# Altium footprint library Dallas Semiconductor Footprints.PcbLib: 181 footprints (part 11 of 12)
Each footprint in its own frame and in the unit in brackets; x right, y up, seen from the top. Pads: shape width x height; smd on the part's side, far side on the other; paste and mask are expansions set on the pad; w line width, h text height; cw(c..) or ccw(c..) is an arc to the next point about the centre after c.
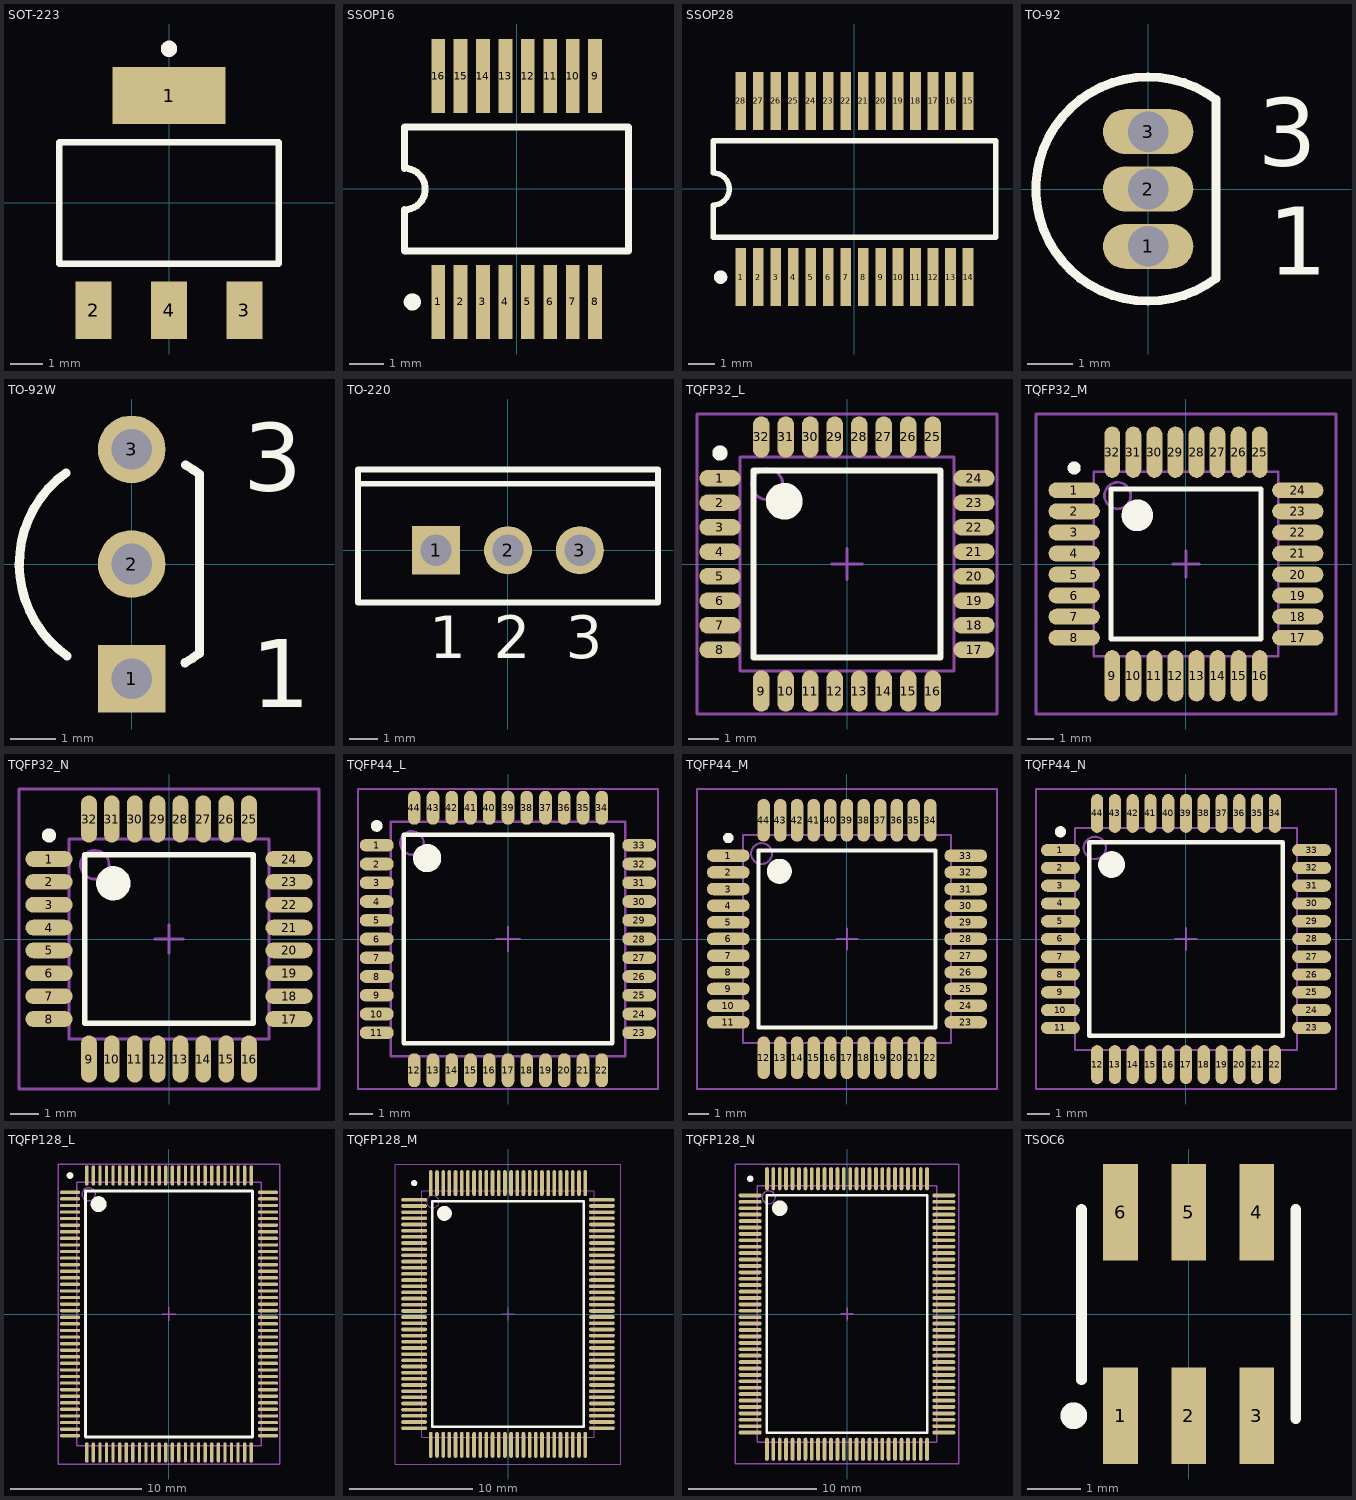
[diagram p10: the footprints below, top view; thin cyan lines are the x and y axes]

## SOT-223 [mm] "SOT-223/SC-73; 4 Leads; Body 6.7 x 7.3 mm, inc. leads (LxW max)"
height 1.7
pads (4):
  rect 3.45x1.75 smd: 1(0,3.275)
  rect 1.1x1.75 smd: 2(-2.3,-3.275) 3(2.3,-3.275) 4(0,-3.275)
Top Overlay:
  circle w0.25: c0,4.7 r0.125
  lines w0.2: -3.35,-1.85 -3.35,1.85 3.35,1.85 3.35,-1.85 -3.35,-1.85

## SSOP16 [mm] "SSOP; 16 Leads; Body Width 5.3 mm; Pitch 0.65 mm"
height 2
pads (16):
  rect 0.4x2.15 smd: 1(-2.275,-3.275) 2(-1.625,-3.275) 3(-0.975,-3.275) 4(-0.325,-3.275) 5(0.325,-3.275) 6(0.975,-3.275) 7(1.625,-3.275) 8(2.275,-3.275) 9(2.275,3.275) 10(1.625,3.275) 11(0.975,3.275) 12(0.325,3.275) 13(-0.325,3.275) 14(-0.975,3.275) 15(-1.625,3.275) 16(-2.275,3.275)
Top Overlay:
  circle w0.25: c-3.025,-3.275 r0.125
  lines w0.2: -3.25,-1.8 3.25,-1.8 3.25,1.8 -3.25,1.8 -3.25,0.6 cw(c-3.25,0) -3.25,-0.6 -3.25,-1.8

## SSOP28 [mm] "SSOP, Plastic; 28 Leads; Body Width 5.3 mm; Pitch 0.65 mm"
height 2
pads (28):
  rect 0.4x2.15 smd: 1(-4.225,-3.275) 2(-3.575,-3.275) 3(-2.925,-3.275) 4(-2.275,-3.275) 5(-1.625,-3.275) 6(-0.975,-3.275) 7(-0.325,-3.275) 8(0.325,-3.275) 9(0.975,-3.275) 10(1.625,-3.275) 11(2.275,-3.275) 12(2.925,-3.275) 13(3.575,-3.275) 14(4.225,-3.275) 15(4.225,3.275) 16(3.575,3.275) 17(2.925,3.275) 18(2.275,3.275) 19(1.625,3.275) 20(0.975,3.275) 21(0.325,3.275) 22(-0.325,3.275) 23(-0.975,3.275) 24(-1.625,3.275) 25(-2.275,3.275) 26(-2.925,3.275) 27(-3.575,3.275) 28(-4.225,3.275)
Top Overlay:
  circle w0.25: c-4.975,-3.275 r0.125
  lines w0.2: -5.25,-1.8 5.25,-1.8 5.25,1.8 -5.25,1.8 -5.25,0.6 cw(c-5.25,0) -5.25,-0.6 -5.25,-1.8

## TO-92 [mm] "TO, Flat Index; 3 In-Line, Axial Leads; Body Dia. 4.7mm; Leads 0.56 x 0.51 mm (max)"
height 4.96
pads (3):
  oval 2x1 hole 0.9: 1(0,-1.27) 2(0,0) 3(0,1.27)
Top Overlay:
  lines w0.2: 1.5,-1.98 cw(c0,0) 1.5,1.98 1.5,-1.98
  text "3" at 2.43,0.51 h1.5
  text "1" at 2.66,-1.9 h1.5

## TO-92W [mm] "TO, Flat Index; 3 In-Line, Axial Leads (Wide Pitch); Body Dia. 4.7mm; Leads 0.56 x 0.51 mm (max)"
height 7.96
pads (3):
  rect 1.5x1.5 hole 0.9: 1(0,-2.54)
  round 1.5 hole 0.9: 2(0,0) 3(0,2.54)
Top Overlay:
  lines w0.2: -1.457,2.019 ccw(c0,0) -1.429,-2.039 ; 1.177,-2.188 ccw(c0,0) 1.5,-1.98 1.5,1.98 ; 1.189,2.194 cw(c0,0) 1.507,1.989
  text "3" at 2.47,1.62 h1.5
  text "1" at 2.65,-3.17 h1.5

## TO-220 [mm] "TO, Thru-Hole, Vertical, Heatsink Mounted; 3 In-Line Leads; Pitch 2.54 mm"
height 21.4
pads (3):
  rect 1.7x1.7 hole 1.1: 1(-2.54,0)
  round 1.7 hole 1.1: 2(0,0) 3(2.54,0)
Top Overlay:
  lines w0.2: -5.3,2.35 5.3,2.35 ; -5.3,-1.85 5.3,-1.85 5.3,2.85 -5.3,2.85 -5.3,-1.85
  text "1" at -2.79,-3.825 h1.5
  text "2" at -0.5,-3.825 h1.5
  text "3" at 2.04,-3.825 h1.5

## TQFP32_L [mm] "32-Pin Thin Quad Flat Pack 0.8 mm Pitch, IPC High Density"
height 1.2
pads (32):
  oval 1.35x0.55 smd: 1(-4.15,2.8) 2(-4.15,2) 3(-4.15,1.2) 4(-4.15,0.4) 5(-4.15,-0.4) 6(-4.15,-1.2) 7(-4.15,-2) 8(-4.15,-2.8) 17(4.15,-2.8) 18(4.15,-2) 19(4.15,-1.2) 20(4.15,-0.4) 21(4.15,0.4) 22(4.15,1.2) 23(4.15,2) 24(4.15,2.8)
  oval 0.55x1.35 smd: 9(-2.8,-4.15) 10(-2,-4.15) 11(-1.2,-4.15) 12(-0.4,-4.15) 13(0.4,-4.15) 14(1.2,-4.15) 15(2,-4.15) 16(2.8,-4.15) 25(2.8,4.15) 26(2,4.15) 27(1.2,4.15) 28(0.4,4.15) 29(-0.4,4.15) 30(-1.2,4.15) 31(-2,4.15) 32(-2.8,4.15)
Top Overlay:
  circle w0.25: c-4.15,3.625 r0.125
  circle w0.6: c-2.05,2.05 r0.3
  lines w0.2: -3.05,-3.05 -3.05,3.05 3.05,3.05 3.05,-3.05 -3.05,-3.05
Mechanical 13:
  circle w0.1: c-2.6,2.6 r0.5
  lines w0.1: -3.5,-3.5 -3.5,3.5 3.5,3.5 3.5,-3.5 -3.5,-3.5
Mechanical 15:
  lines w0.1: -0.5,0 0.5,0 ; 0,-0.5 0,0.5 ; -4.9,-4.9 -4.9,4.9 4.9,4.9 4.9,-4.9 -4.9,-4.9
3D body: height 1.2, standoff 0, extent -3.5,-3.5 3.5,3.5

## TQFP32_M [mm] "32-Pin Thin Quad Flat Pack 0.8 mm Pitch, IPC Low Density"
height 1.2
pads (32):
  oval 1.95x0.6 smd: 1(-4.25,2.8) 2(-4.25,2) 3(-4.25,1.2) 4(-4.25,0.4) 5(-4.25,-0.4) 6(-4.25,-1.2) 7(-4.25,-2) 8(-4.25,-2.8) 17(4.25,-2.8) 18(4.25,-2) 19(4.25,-1.2) 20(4.25,-0.4) 21(4.25,0.4) 22(4.25,1.2) 23(4.25,2) 24(4.25,2.8)
  oval 0.6x1.95 smd: 9(-2.8,-4.25) 10(-2,-4.25) 11(-1.2,-4.25) 12(-0.4,-4.25) 13(0.4,-4.25) 14(1.2,-4.25) 15(2,-4.25) 16(2.8,-4.25) 25(2.8,4.25) 26(2,4.25) 27(1.2,4.25) 28(0.4,4.25) 29(-0.4,4.25) 30(-1.2,4.25) 31(-2,4.25) 32(-2.8,4.25)
Top Overlay:
  circle w0.25: c-4.25,3.65 r0.125
  circle w0.6: c-1.85,1.85 r0.3
  lines w0.2: -2.85,-2.85 -2.85,2.85 2.85,2.85 2.85,-2.85 -2.85,-2.85
Mechanical 13:
  circle w0.1: c-2.6,2.6 r0.5
  lines w0.1: -3.5,-3.5 -3.5,3.5 3.5,3.5 3.5,-3.5 -3.5,-3.5
Mechanical 15:
  lines w0.1: -0.5,0 0.5,0 ; 0,-0.5 0,0.5 ; -5.7,-5.7 -5.7,5.7 5.7,5.7 5.7,-5.7 -5.7,-5.7
3D body: height 1.2, standoff 0, extent -3.5,-3.5 3.5,3.5

## TQFP32_N [mm] "32-Pin Thin Quad Flat Pack 0.8 mm Pitch, IPC Medium Density"
height 1.2
pads (32):
  oval 1.65x0.55 smd: 1(-4.2,2.8) 2(-4.2,2) 3(-4.2,1.2) 4(-4.2,0.4) 5(-4.2,-0.4) 6(-4.2,-1.2) 7(-4.2,-2) 8(-4.2,-2.8) 17(4.2,-2.8) 18(4.2,-2) 19(4.2,-1.2) 20(4.2,-0.4) 21(4.2,0.4) 22(4.2,1.2) 23(4.2,2) 24(4.2,2.8)
  oval 0.55x1.65 smd: 9(-2.8,-4.2) 10(-2,-4.2) 11(-1.2,-4.2) 12(-0.4,-4.2) 13(0.4,-4.2) 14(1.2,-4.2) 15(2,-4.2) 16(2.8,-4.2) 25(2.8,4.2) 26(2,4.2) 27(1.2,4.2) 28(0.4,4.2) 29(-0.4,4.2) 30(-1.2,4.2) 31(-2,4.2) 32(-2.8,4.2)
Top Overlay:
  circle w0.6: c-1.95,1.95 r0.3
  circle w0.25: c-4.2,3.625 r0.125
  lines w0.2: -2.95,-2.95 2.95,-2.95 2.95,2.95 -2.95,2.95 -2.95,-2.95
Mechanical 13:
  circle w0.1: c-2.6,2.6 r0.5
  lines w0.1: -3.5,-3.5 3.5,-3.5 3.5,3.5 -3.5,3.5 -3.5,-3.5
Mechanical 15:
  lines w0.1: -0.5,0 0.5,0 ; 0,-0.5 0,0.5 ; -5.25,-5.25 5.25,-5.25 5.25,5.25 -5.25,5.25 -5.25,-5.25
3D body: height 1.2, standoff 0, extent -3.5,-3.5 3.5,3.5

## TQFP44_L [mm] "44-Pin Thin Quad Flat Pack 0.8 mm Pitch, IPC High Density"
height 1.2
pads (44):
  oval 1.45x0.55 smd: 1(-5.6,4) 2(-5.6,3.2) 3(-5.6,2.4) 4(-5.6,1.6) 5(-5.6,0.8) 6(-5.6,0) 7(-5.6,-0.8) 8(-5.6,-1.6) 9(-5.6,-2.4) 10(-5.6,-3.2) 11(-5.6,-4) 23(5.6,-4) 24(5.6,-3.2) 25(5.6,-2.4) 26(5.6,-1.6) 27(5.6,-0.8) 28(5.6,0) 29(5.6,0.8) 30(5.6,1.6) 31(5.6,2.4) 32(5.6,3.2) 33(5.6,4)
  oval 0.55x1.45 smd: 12(-4,-5.6) 13(-3.2,-5.6) 14(-2.4,-5.6) 15(-1.6,-5.6) 16(-0.8,-5.6) 17(0,-5.6) 18(0.8,-5.6) 19(1.6,-5.6) 20(2.4,-5.6) 21(3.2,-5.6) 22(4,-5.6) 34(4,5.6) 35(3.2,5.6) 36(2.4,5.6) 37(1.6,5.6) 38(0.8,5.6) 39(0,5.6) 40(-0.8,5.6) 41(-1.6,5.6) 42(-2.4,5.6) 43(-3.2,5.6) 44(-4,5.6)
Top Overlay:
  circle w0.6: c-3.45,3.45 r0.3
  circle w0.25: c-5.6,4.825 r0.125
  lines w0.2: -4.45,-4.45 4.45,-4.45 4.45,4.45 -4.45,4.45 -4.45,-4.45
Mechanical 13:
  circle w0.1: c-4.1,4.1 r0.5
  lines w0.1: -5,-5 5,-5 5,5 -5,5 -5,-5
Mechanical 15:
  lines w0.1: -0.5,0 0.5,0 ; 0,-0.5 0,0.5 ; -6.4,-6.4 6.4,-6.4 6.4,6.4 -6.4,6.4 -6.4,-6.4
3D body: height 1.2, standoff 0, extent -5,-5 5,5

## TQFP44_M [mm] "44-Pin Thin Quad Flat Pack 0.8 mm Pitch, IPC Low Density"
height 1.2
pads (44):
  oval 2.05x0.6 smd: 1(-5.7,4) 2(-5.7,3.2) 3(-5.7,2.4) 4(-5.7,1.6) 5(-5.7,0.8) 6(-5.7,0) 7(-5.7,-0.8) 8(-5.7,-1.6) 9(-5.7,-2.4) 10(-5.7,-3.2) 11(-5.7,-4) 23(5.7,-4) 24(5.7,-3.2) 25(5.7,-2.4) 26(5.7,-1.6) 27(5.7,-0.8) 28(5.7,0) 29(5.7,0.8) 30(5.7,1.6) 31(5.7,2.4) 32(5.7,3.2) 33(5.7,4)
  oval 0.6x2.05 smd: 12(-4,-5.7) 13(-3.2,-5.7) 14(-2.4,-5.7) 15(-1.6,-5.7) 16(-0.8,-5.7) 17(0,-5.7) 18(0.8,-5.7) 19(1.6,-5.7) 20(2.4,-5.7) 21(3.2,-5.7) 22(4,-5.7) 34(4,5.7) 35(3.2,5.7) 36(2.4,5.7) 37(1.6,5.7) 38(0.8,5.7) 39(0,5.7) 40(-0.8,5.7) 41(-1.6,5.7) 42(-2.4,5.7) 43(-3.2,5.7) 44(-4,5.7)
Top Overlay:
  circle w0.6: c-3.25,3.25 r0.3
  circle w0.25: c-5.7,4.85 r0.125
  lines w0.2: -4.25,-4.25 4.25,-4.25 4.25,4.25 -4.25,4.25 -4.25,-4.25
Mechanical 13:
  circle w0.1: c-4.1,4.1 r0.5
  lines w0.1: -5,-5 5,-5 5,5 -5,5 -5,-5
Mechanical 15:
  lines w0.1: -0.5,0 0.5,0 ; 0,-0.5 0,0.5 ; -7.2,-7.2 7.2,-7.2 7.2,7.2 -7.2,7.2 -7.2,-7.2
3D body: height 1.2, standoff 0, extent -5,-5 5,5

## TQFP44_N [mm] "44-Pin Thin Quad Flat Pack 0.8 mm Pitch, IPC Medium Density"
height 1.2
pads (44):
  oval 1.75x0.55 smd: 1(-5.65,4) 2(-5.65,3.2) 3(-5.65,2.4) 4(-5.65,1.6) 5(-5.65,0.8) 6(-5.65,0) 7(-5.65,-0.8) 8(-5.65,-1.6) 9(-5.65,-2.4) 10(-5.65,-3.2) 11(-5.65,-4) 23(5.65,-4) 24(5.65,-3.2) 25(5.65,-2.4) 26(5.65,-1.6) 27(5.65,-0.8) 28(5.65,0) 29(5.65,0.8) 30(5.65,1.6) 31(5.65,2.4) 32(5.65,3.2) 33(5.65,4)
  oval 0.55x1.75 smd: 12(-4,-5.65) 13(-3.2,-5.65) 14(-2.4,-5.65) 15(-1.6,-5.65) 16(-0.8,-5.65) 17(0,-5.65) 18(0.8,-5.65) 19(1.6,-5.65) 20(2.4,-5.65) 21(3.2,-5.65) 22(4,-5.65) 34(4,5.65) 35(3.2,5.65) 36(2.4,5.65) 37(1.6,5.65) 38(0.8,5.65) 39(0,5.65) 40(-0.8,5.65) 41(-1.6,5.65) 42(-2.4,5.65) 43(-3.2,5.65) 44(-4,5.65)
Top Overlay:
  circle w0.6: c-3.35,3.35 r0.3
  circle w0.25: c-5.65,4.825 r0.125
  lines w0.2: -4.35,-4.35 4.35,-4.35 4.35,4.35 -4.35,4.35 -4.35,-4.35
Mechanical 13:
  circle w0.1: c-4.1,4.1 r0.5
  lines w0.1: -5,-5 5,-5 5,5 -5,5 -5,-5
Mechanical 15:
  lines w0.1: -0.5,0 0.5,0 ; 0,-0.5 0,0.5 ; -6.75,-6.75 6.75,-6.75 6.75,6.75 -6.75,6.75 -6.75,-6.75
3D body: height 1.2, standoff 0, extent -5,-5 5,5

## TQFP128_L [mm] "128-Pin Thin Quad Flat Pack Rectangular 0.5 mm Pitch, IPC High Density"
height 1.6
pads (128):
  oval 1.55x0.25 smd: 1(-7.525,9.25) 2(-7.525,8.75) 3(-7.525,8.25) 4(-7.525,7.75) 5(-7.525,7.25) 6(-7.525,6.75) 7(-7.525,6.25) 8(-7.525,5.75) 9(-7.525,5.25) 10(-7.525,4.75) 11(-7.525,4.25) 12(-7.525,3.75) 13(-7.525,3.25) 14(-7.525,2.75) 15(-7.525,2.25) 16(-7.525,1.75) 17(-7.525,1.25) 18(-7.525,0.75) 19(-7.525,0.25) 20(-7.525,-0.25) 21(-7.525,-0.75) 22(-7.525,-1.25) 23(-7.525,-1.75) 24(-7.525,-2.25) 25(-7.525,-2.75) 26(-7.525,-3.25) 27(-7.525,-3.75) 28(-7.525,-4.25) 29(-7.525,-4.75) 30(-7.525,-5.25) 31(-7.525,-5.75) 32(-7.525,-6.25) 33(-7.525,-6.75) 34(-7.525,-7.25) 35(-7.525,-7.75) 36(-7.525,-8.25) 37(-7.525,-8.75) 38(-7.525,-9.25) 65(7.525,-9.25) 66(7.525,-8.75) 67(7.525,-8.25) 68(7.525,-7.75) 69(7.525,-7.25) 70(7.525,-6.75) 71(7.525,-6.25) 72(7.525,-5.75) 73(7.525,-5.25) 74(7.525,-4.75) 75(7.525,-4.25) 76(7.525,-3.75) 77(7.525,-3.25) 78(7.525,-2.75) 79(7.525,-2.25) 80(7.525,-1.75) 81(7.525,-1.25) 82(7.525,-0.75) 83(7.525,-0.25) 84(7.525,0.25) 85(7.525,0.75) 86(7.525,1.25) 87(7.525,1.75) 88(7.525,2.25) 89(7.525,2.75) 90(7.525,3.25) 91(7.525,3.75) 92(7.525,4.25) 93(7.525,4.75) 94(7.525,5.25) 95(7.525,5.75) 96(7.525,6.25) 97(7.525,6.75) 98(7.525,7.25) 99(7.525,7.75) 100(7.525,8.25) 101(7.525,8.75) 102(7.525,9.25)
  oval 0.25x1.55 smd: 39(-6.25,-10.525) 40(-5.75,-10.525) 41(-5.25,-10.525) 42(-4.75,-10.525) 43(-4.25,-10.525) 44(-3.75,-10.525) 45(-3.25,-10.525) 46(-2.75,-10.525) 47(-2.25,-10.525) 48(-1.75,-10.525) 49(-1.25,-10.525) 50(-0.75,-10.525) 51(-0.25,-10.525) 52(0.25,-10.525) 53(0.75,-10.525) 54(1.25,-10.525) 55(1.75,-10.525) 56(2.25,-10.525) 57(2.75,-10.525) 58(3.25,-10.525) 59(3.75,-10.525) 60(4.25,-10.525) 61(4.75,-10.525) 62(5.25,-10.525) 63(5.75,-10.525) 64(6.25,-10.525) 103(6.25,10.525) 104(5.75,10.525) 105(5.25,10.525) 106(4.75,10.525) 107(4.25,10.525) 108(3.75,10.525) 109(3.25,10.525) 110(2.75,10.525) 111(2.25,10.525) 112(1.75,10.525) 113(1.25,10.525) 114(0.75,10.525) 115(0.25,10.525) 116(-0.25,10.525) 117(-0.75,10.525) 118(-1.25,10.525) 119(-1.75,10.525) 120(-2.25,10.525) 121(-2.75,10.525) 122(-3.25,10.525) 123(-3.75,10.525) 124(-4.25,10.525) 125(-4.75,10.525) 126(-5.25,10.525) 127(-5.75,10.525) 128(-6.25,10.525)
Top Overlay:
  circle w0.25: c-7.525,10.525 r0.125
  circle w0.6: c-5.35,8.35 r0.3
  lines w0.2: -6.35,-9.35 -6.35,9.35 6.35,9.35 6.35,-9.35 -6.35,-9.35
Mechanical 13:
  circle w0.1: c-6.1,9.1 r0.5
  lines w0.1: -7,-10 -7,10 7,10 7,-10 -7,-10
Mechanical 15:
  lines w0.1: -0.5,0 0.5,0 ; 0,-0.5 0,0.5 ; -8.4,-11.4 -8.4,11.4 8.4,11.4 8.4,-11.4 -8.4,-11.4
3D body: height 1.6, standoff 0, extent -7,-10 7,10

## TQFP128_M [mm] "128-Pin Thin Quad Flat Pack Rectangular 0.5 mm Pitch, IPC Low Density"
height 1.6
pads (128):
  oval 2.1x0.3 smd: 1(-7.6,9.25) 2(-7.6,8.75) 3(-7.6,8.25) 4(-7.6,7.75) 5(-7.6,7.25) 6(-7.6,6.75) 7(-7.6,6.25) 8(-7.6,5.75) 9(-7.6,5.25) 10(-7.6,4.75) 11(-7.6,4.25) 12(-7.6,3.75) 13(-7.6,3.25) 14(-7.6,2.75) 15(-7.6,2.25) 16(-7.6,1.75) 17(-7.6,1.25) 18(-7.6,0.75) 19(-7.6,0.25) 20(-7.6,-0.25) 21(-7.6,-0.75) 22(-7.6,-1.25) 23(-7.6,-1.75) 24(-7.6,-2.25) 25(-7.6,-2.75) 26(-7.6,-3.25) 27(-7.6,-3.75) 28(-7.6,-4.25) 29(-7.6,-4.75) 30(-7.6,-5.25) 31(-7.6,-5.75) 32(-7.6,-6.25) 33(-7.6,-6.75) 34(-7.6,-7.25) 35(-7.6,-7.75) 36(-7.6,-8.25) 37(-7.6,-8.75) 38(-7.6,-9.25) 65(7.6,-9.25) 66(7.6,-8.75) 67(7.6,-8.25) 68(7.6,-7.75) 69(7.6,-7.25) 70(7.6,-6.75) 71(7.6,-6.25) 72(7.6,-5.75) 73(7.6,-5.25) 74(7.6,-4.75) 75(7.6,-4.25) 76(7.6,-3.75) 77(7.6,-3.25) 78(7.6,-2.75) 79(7.6,-2.25) 80(7.6,-1.75) 81(7.6,-1.25) 82(7.6,-0.75) 83(7.6,-0.25) 84(7.6,0.25) 85(7.6,0.75) 86(7.6,1.25) 87(7.6,1.75) 88(7.6,2.25) 89(7.6,2.75) 90(7.6,3.25) 91(7.6,3.75) 92(7.6,4.25) 93(7.6,4.75) 94(7.6,5.25) 95(7.6,5.75) 96(7.6,6.25) 97(7.6,6.75) 98(7.6,7.25) 99(7.6,7.75) 100(7.6,8.25) 101(7.6,8.75) 102(7.6,9.25)
  oval 0.3x2.1 smd: 39(-6.25,-10.6) 40(-5.75,-10.6) 41(-5.25,-10.6) 42(-4.75,-10.6) 43(-4.25,-10.6) 44(-3.75,-10.6) 45(-3.25,-10.6) 46(-2.75,-10.6) 47(-2.25,-10.6) 48(-1.75,-10.6) 49(-1.25,-10.6) 50(-0.75,-10.6) 51(-0.25,-10.6) 52(0.25,-10.6) 53(0.75,-10.6) 54(1.25,-10.6) 55(1.75,-10.6) 56(2.25,-10.6) 57(2.75,-10.6) 58(3.25,-10.6) 59(3.75,-10.6) 60(4.25,-10.6) 61(4.75,-10.6) 62(5.25,-10.6) 63(5.75,-10.6) 64(6.25,-10.6) 103(6.25,10.6) 104(5.75,10.6) 105(5.25,10.6) 106(4.75,10.6) 107(4.25,10.6) 108(3.75,10.6) 109(3.25,10.6) 110(2.75,10.6) 111(2.25,10.6) 112(1.75,10.6) 113(1.25,10.6) 114(0.75,10.6) 115(0.25,10.6) 116(-0.25,10.6) 117(-0.75,10.6) 118(-1.25,10.6) 119(-1.75,10.6) 120(-2.25,10.6) 121(-2.75,10.6) 122(-3.25,10.6) 123(-3.75,10.6) 124(-4.25,10.6) 125(-4.75,10.6) 126(-5.25,10.6) 127(-5.75,10.6) 128(-6.25,10.6)
Top Overlay:
  circle w0.6: c-5.15,8.15 r0.3
  circle w0.25: c-7.6,10.6 r0.125
  lines w0.2: -6.15,-9.15 6.15,-9.15 6.15,9.15 -6.15,9.15 -6.15,-9.15
Mechanical 13:
  circle w0.1: c-6.1,9.1 r0.5
  lines w0.1: -7,-10 7,-10 7,10 -7,10 -7,-10
Mechanical 15:
  lines w0.1: -0.5,0 0.5,0 ; 0,-0.5 0,0.5 ; -9.15,-12.15 9.15,-12.15 9.15,12.15 -9.15,12.15 -9.15,-12.15
3D body: height 1.6, standoff 0, extent -7,-10 7,10

## TQFP128_N [mm] "128-Pin Thin Quad Flat Pack Rectangular 0.5 mm Pitch, IPC Medium Density"
height 1.6
pads (128):
  oval 1.8x0.3 smd: 1(-7.55,9.25) 2(-7.55,8.75) 3(-7.55,8.25) 4(-7.55,7.75) 5(-7.55,7.25) 6(-7.55,6.75) 7(-7.55,6.25) 8(-7.55,5.75) 9(-7.55,5.25) 10(-7.55,4.75) 11(-7.55,4.25) 12(-7.55,3.75) 13(-7.55,3.25) 14(-7.55,2.75) 15(-7.55,2.25) 16(-7.55,1.75) 17(-7.55,1.25) 18(-7.55,0.75) 19(-7.55,0.25) 20(-7.55,-0.25) 21(-7.55,-0.75) 22(-7.55,-1.25) 23(-7.55,-1.75) 24(-7.55,-2.25) 25(-7.55,-2.75) 26(-7.55,-3.25) 27(-7.55,-3.75) 28(-7.55,-4.25) 29(-7.55,-4.75) 30(-7.55,-5.25) 31(-7.55,-5.75) 32(-7.55,-6.25) 33(-7.55,-6.75) 34(-7.55,-7.25) 35(-7.55,-7.75) 36(-7.55,-8.25) 37(-7.55,-8.75) 38(-7.55,-9.25) 65(7.55,-9.25) 66(7.55,-8.75) 67(7.55,-8.25) 68(7.55,-7.75) 69(7.55,-7.25) 70(7.55,-6.75) 71(7.55,-6.25) 72(7.55,-5.75) 73(7.55,-5.25) 74(7.55,-4.75) 75(7.55,-4.25) 76(7.55,-3.75) 77(7.55,-3.25) 78(7.55,-2.75) 79(7.55,-2.25) 80(7.55,-1.75) 81(7.55,-1.25) 82(7.55,-0.75) 83(7.55,-0.25) 84(7.55,0.25) 85(7.55,0.75) 86(7.55,1.25) 87(7.55,1.75) 88(7.55,2.25) 89(7.55,2.75) 90(7.55,3.25) 91(7.55,3.75) 92(7.55,4.25) 93(7.55,4.75) 94(7.55,5.25) 95(7.55,5.75) 96(7.55,6.25) 97(7.55,6.75) 98(7.55,7.25) 99(7.55,7.75) 100(7.55,8.25) 101(7.55,8.75) 102(7.55,9.25)
  oval 0.3x1.8 smd: 39(-6.25,-10.55) 40(-5.75,-10.55) 41(-5.25,-10.55) 42(-4.75,-10.55) 43(-4.25,-10.55) 44(-3.75,-10.55) 45(-3.25,-10.55) 46(-2.75,-10.55) 47(-2.25,-10.55) 48(-1.75,-10.55) 49(-1.25,-10.55) 50(-0.75,-10.55) 51(-0.25,-10.55) 52(0.25,-10.55) 53(0.75,-10.55) 54(1.25,-10.55) 55(1.75,-10.55) 56(2.25,-10.55) 57(2.75,-10.55) 58(3.25,-10.55) 59(3.75,-10.55) 60(4.25,-10.55) 61(4.75,-10.55) 62(5.25,-10.55) 63(5.75,-10.55) 64(6.25,-10.55) 103(6.25,10.55) 104(5.75,10.55) 105(5.25,10.55) 106(4.75,10.55) 107(4.25,10.55) 108(3.75,10.55) 109(3.25,10.55) 110(2.75,10.55) 111(2.25,10.55) 112(1.75,10.55) 113(1.25,10.55) 114(0.75,10.55) 115(0.25,10.55) 116(-0.25,10.55) 117(-0.75,10.55) 118(-1.25,10.55) 119(-1.75,10.55) 120(-2.25,10.55) 121(-2.75,10.55) 122(-3.25,10.55) 123(-3.75,10.55) 124(-4.25,10.55) 125(-4.75,10.55) 126(-5.25,10.55) 127(-5.75,10.55) 128(-6.25,10.55)
Top Overlay:
  circle w0.6: c-5.25,8.25 r0.3
  circle w0.25: c-7.55,10.55 r0.125
  lines w0.2: -6.25,-9.25 6.25,-9.25 6.25,9.25 -6.25,9.25 -6.25,-9.25
Mechanical 13:
  circle w0.1: c-6.1,9.1 r0.5
  lines w0.1: -7,-10 7,-10 7,10 -7,10 -7,-10
Mechanical 15:
  lines w0.1: -0.5,0 0.5,0 ; 0,-0.5 0,0.5 ; -8.7,-11.7 8.7,-11.7 8.7,11.7 -8.7,11.7 -8.7,-11.7
3D body: height 1.6, standoff 0, extent -7,-10 7,10

## TSOC6 [mm] "Small Outline; 6 C-Bend Leads; Body Width 3.8 mm; Pitch 1.27 mm"
height 1.5
pads (6):
  rect 0.65x1.8 smd: 1(-1.27,-1.9) 2(0,-1.9) 3(1.27,-1.9) 4(1.27,1.9) 5(0,1.9) 6(-1.27,1.9)
Top Overlay:
  circle w0.25: c-2.145,-1.9 r0.125
  lines w0.2: -2,-1.23 -2,1.95 ; 2,-1.95 2,1.95